# Altium footprint library HT32F52352.PcbLib: 26 footprints (part 1 of 2)
Each footprint in its own frame and in the unit in brackets; x right, y up, seen from the top. Pads: shape width x height; smd on the part's side, far side on the other; paste and mask are expansions set on the pad; w line width, h text height; cw(c..) or ccw(c..) is an arc to the next point about the centre after c.
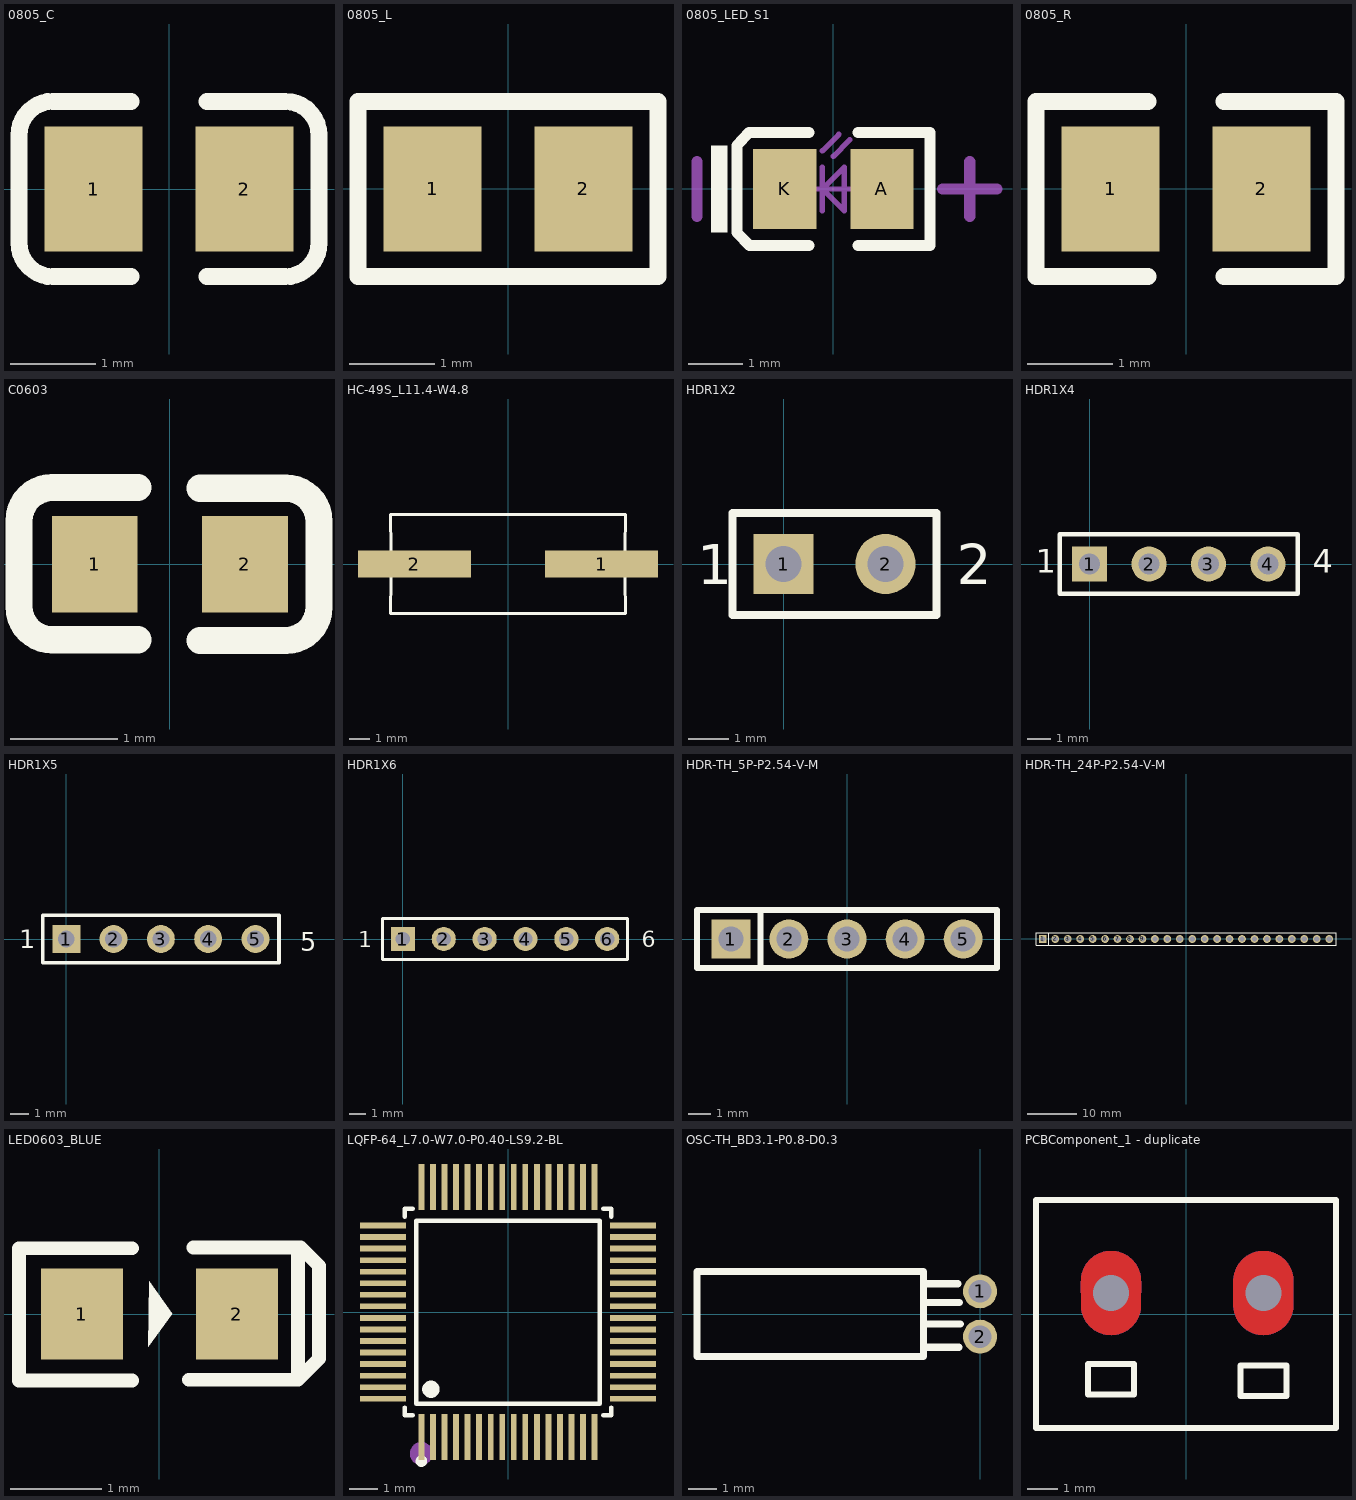
[diagram p0: the footprints below, top view; thin cyan lines are the x and y axes]

## 0805_C [mm]
pads (2):
  rect 1.16x1.47 smd: 1(-0.89,0) 2(0.89,0)
Top Overlay:
  lines w0.2: -0.45,-1.035 -1.37,-1.035 cw(c-1.37,-0.635) -1.77,-0.635 -1.77,0.635 cw(c-1.37,0.635) -1.37,1.035 -0.45,1.035 ; 0.45,-1.035 1.37,-1.035 ccw(c1.37,-0.635) 1.77,-0.635 1.77,0.635 ccw(c1.37,0.635) 1.37,1.035 0.45,1.035
3D body "User Library-0805 SMD Capacitor.STEP": height 0.77, standoff -0.01, extent -0.999,-0.625 1.001,0.625

## 0805_L [mm]
pads (2):
  rect 1.16x1.47 smd: 1(-0.89,0) 2(0.89,0)
Top Overlay:
  lines w0.2: -1.77,-1.035 1.77,-1.035 1.77,1.035 -1.77,1.035 -1.77,-1.035
3D body "L0805.STEP": height 0.6, standoff -0.02, extent -1.022,-0.637 1.028,0.638

## 0805_LED_S1 [mm]
pads (2):
  rect 1.16x1.47 smd: A(0.89,0) K(-0.89,0)
Top Overlay:
  rectangle: -2.245,-0.8 -1.945,0.8
  lines w0.2: -0.45,-1.035 -1.535,-1.035 -1.77,-0.8 -1.77,0.8 -1.55,1.035 -0.45,1.035 ; 0.45,-1.035 1.77,-1.035 1.77,1.035 0.45,1.035
Mechanical 13:
  lines w0.1: -0.4,0 0.4,0 ; -0.2,-0.4 -0.2,0.4 ; -0.2,0.7 0.1,1 ; 0,0.6 0.3,0.9 ; -0.2,0 0.2,0.4 0.2,-0.4 -0.2,0
Mechanical 15:
  lines w0.203: -2.5,-0.5 -2.5,0.5 ; 2,0 3,0 ; 2.5,-0.5 2.5,0.5
3D body "User Library-led_0805.step": height 1.1, standoff 0, extent -1.01,-0.625 1.01,0.625

## 0805_R [mm]
pads (2):
  rect 1.16x1.47 smd: 1(-0.89,0) 2(0.89,0)
Top Overlay:
  lines w0.2: -0.45,-1.035 -1.77,-1.035 -1.77,1.035 -0.45,1.035 ; 0.45,-1.035 1.77,-1.035 1.77,1.035 0.45,1.035
3D body "User Library-R_0805.STEP": height 0.49, standoff -0.01, extent -0.997,-0.625 1.003,0.625

## C0603 [mm]
pads (2):
  rect 0.8x0.9 smd: 1(-0.7,0) 2(0.7,0)
Top Overlay:
  lines w0.254: -0.296,-0.704 -1.096,-0.704 cw(c-1.096,-0.394) -1.406,-0.394 -1.405,0.406 cw(c-1.096,0.406) -1.096,0.715 -0.296,0.715 ; 0.28,-0.71 1.08,-0.71 ccw(c1.08,-0.4) 1.39,-0.4 1.39,0.4 ccw(c1.08,0.4) 1.08,0.71 0.28,0.71

## HC-49S_L11.4-W4.8 [mm]
pads (2):
  rect 5.5x1.3 smd: 1(4.553,0) 2(-4.553,0)
Top Overlay:
  lines w0.152: -5.715,-2.413 -5.7,-0.662 -5.715,-2.413 ; -5.715,-2.413 5.715,-2.413 ; -5.715,-2.413 5.715,-2.413 ; -5.715,2.413 5.715,2.413 ; -5.715,2.413 -5.7,0.662 -5.715,2.413 ; -5.715,2.413 5.715,2.413 ; 5.715,-2.413 5.7,-0.662 5.715,-2.413 ; 5.715,2.413 5.7,0.662 5.715,2.413

## HDR1X2 [mm]
pads (2):
  rect 1.5x1.5 hole 0.9: 1(0,0)
  round 1.5 hole 0.9: 2(2.54,0)
Top Overlay:
  lines w0.2: -1.27,-1.27 3.81,-1.27 3.81,1.27 -1.27,1.27 -1.27,-1.27
  text "1" at -2.159,-0.508 h1
  text "2" at 4.318,-0.508 h1

## HDR1X4 [mm]
pads (4):
  rect 1.5x1.5 hole 0.9: 1(0,0)
  round 1.5 hole 0.9: 2(2.54,0) 3(5.08,0) 4(7.62,0)
Top Overlay:
  lines w0.2: -1.27,-1.27 8.89,-1.27 8.89,1.27 -1.27,1.27 -1.27,-1.27
  text "1" at -2.286,-0.381 h1
  text "4" at 9.525,-0.381 h1

## HDR1X5 [mm]
pads (5):
  rect 1.5x1.5 hole 0.9: 1(0,0)
  round 1.5 hole 0.9: 2(2.54,0) 3(5.08,0) 4(7.62,0) 5(10.16,0)
Top Overlay:
  lines w0.2: -1.27,-1.27 -1.27,1.27 11.43,1.27 11.43,-1.27 -1.27,-1.27
  text "5" at 12.573,-0.635 h1
  text "1" at -2.54,-0.508 h1

## HDR1X6 [mm]
pads (6):
  rect 1.5x1.5 hole 0.9: 1(0,0)
  round 1.5 hole 0.9: 2(2.54,0) 3(5.08,0) 4(7.62,0) 5(10.16,0) 6(12.7,0)
Top Overlay:
  lines w0.2: -1.27,-1.27 -1.27,1.27 13.97,1.27 13.97,-1.27 -1.27,-1.27
  text "6" at 14.859,-0.508 h1
  text "1" at -2.794,-0.508 h1

## HDR-TH_5P-P2.54-V-M [mm]
pads (5):
  rect 1.7x1.7 hole 1.1: 1(-5.08,0)
  round 1.7 hole 1.1: 2(-2.54,0) 3(0,0) 4(2.54,0) 5(5.08,0)
Top Overlay:
  lines w0.254: -3.786,-1.27 -3.786,1.27 ; -6.56,-1.27 -6.56,1.27 6.56,1.27 6.56,-1.27 -6.56,-1.27

## HDR-TH_24P-P2.54-V-M [mm]
pads (24):
  rect 1.6x1.6 hole 1.05: 1(-29.21,0)
  round 1.6 hole 1.05: 2(-26.67,0) 3(-24.13,0) 4(-21.59,0) 5(-19.05,0) 6(-16.51,0) 7(-13.97,0) 8(-11.43,0) 9(-8.89,0) 10(-6.35,0) 11(-3.81,0) 12(-1.27,0) 13(1.27,0) 14(3.81,0) 15(6.35,0) 16(8.89,0) 17(11.43,0) 18(13.97,0) 19(16.51,0) 20(19.05,0) 21(21.59,0) 22(24.13,0) 23(26.67,0) 24(29.21,0)
Top Overlay:
  lines w0.254: -28.032,-1.25 -28.032,1.25 ; -30.6,-1.25 -30.6,1.25 30.6,1.25 30.6,-1.25 -30.6,-1.25

## LED0603_BLUE [mm]
pads (2):
  rect 0.9x1 smd: 1(-0.85,0) 2(0.85,0)
Top Overlay:
  region: -0.11,0.36 -0.12,-0.36 0.14,0
  lines w0.15: -0.3,-0.73 -1.54,-0.73 -1.54,0.72 -0.3,0.72 ; 0.32,-0.72 1.52,-0.72 ; 0.37,0.73 1.52,0.73 ; 1.52,-0.72 1.52,0.73 ; 1.52,-0.72 1.72,-0.52 1.75,-0.49 1.75,0.53 1.55,0.73 1.52,0.73

## LQFP-64_L7.0-W7.0-P0.40-LS9.2-BL [mm]
pads (64):
  rect 0.2x1.6 smd: 1(-3,-4.33) 2(-2.6,-4.33) 3(-2.2,-4.33) 4(-1.8,-4.33) 5(-1.4,-4.33) 6(-1,-4.33) 7(-0.6,-4.33) 8(-0.2,-4.33) 9(0.2,-4.33) 10(0.6,-4.33) 11(1,-4.33) 12(1.4,-4.33) 13(1.8,-4.33) 14(2.2,-4.33) 15(2.6,-4.33) 16(3,-4.33) 33(3,4.33) 34(2.6,4.33) 35(2.2,4.33) 36(1.8,4.33) 37(1.4,4.33) 38(1,4.33) 39(0.6,4.33) 40(0.2,4.33) 41(-0.2,4.33) 42(-0.6,4.33) 43(-1,4.33) 44(-1.4,4.33) 45(-1.8,4.33) 46(-2.2,4.33) 47(-2.6,4.33) 48(-3,4.33)
  rect 1.6x0.2 smd: 17(4.33,-3) 18(4.33,-2.6) 19(4.33,-2.2) 20(4.33,-1.8) 21(4.33,-1.4) 22(4.33,-1) 23(4.33,-0.6) 24(4.33,-0.2) 25(4.33,0.2) 26(4.33,0.6) 27(4.33,1) 28(4.33,1.4) 29(4.33,1.8) 30(4.33,2.2) 31(4.33,2.6) 32(4.33,3) 49(-4.33,3) 50(-4.33,2.6) 51(-4.33,2.2) 52(-4.33,1.8) 53(-4.33,1.4) 54(-4.33,1) 55(-4.33,0.6) 56(-4.33,0.2) 57(-4.33,-0.2) 58(-4.33,-0.6) 59(-4.33,-1) 60(-4.33,-1.4) 61(-4.33,-1.8) 62(-4.33,-2.2) 63(-4.33,-2.6) 64(-4.33,-3)
Top Overlay:
  circle w0.2: c-3,-5.16 r0.1
  circle w0.3: c-2.671,-2.671 r0.15
  lines w0.152: -3.576,-3.303 -3.576,-3.576 -3.303,-3.576 ; -3.576,3.303 -3.576,3.576 -3.303,3.576 ; 3.303,-3.576 3.576,-3.576 3.576,-3.303 ; 3.303,3.576 3.576,3.576 3.576,3.303 ; -3.171,-3.171 -3.171,3.171 3.171,3.171 3.171,-3.171 -3.171,-3.171
Mechanical 15:
  circle w0.4: c-3,-4.9 r0.2

## OSC-TH_BD3.1-P0.8-D0.3 [mm]
pads (2):
  round 1.2 hole 0.8: 1(0,0.8) 2(0,-0.8)
Top Overlay:
  lines w0.254: -2,-1.177 -0.74,-1.177 ; -2,-0.35 -0.698,-0.35 ; -2,0.403 -0.73,0.403 ; -2,1.071 -0.786,1.071 ; -10,-1.5 -2,-1.5 -2,1.5 -10,1.5 -10,-1.5

## PCBComponent_1 - duplicate [mm]
pads (2):
  round 0 hole 1.2: 1(-2.5,0.7) 2(2.58,0.7)
Top Layer:
  region: 250 vertices and 0 holes, not listed, extent -3.5,-0.7 -1.5,2.1
  region: 250 vertices and 0 holes, not listed, extent 1.58,-0.7 3.58,2.1
Bottom Layer:
  region: 250 vertices and 0 holes, not listed, extent -3.5,-0.7 -1.5,2.1
  region: 250 vertices and 0 holes, not listed, extent 1.58,-0.7 3.58,2.1
Top Overlay:
  lines w0.2: -5,-3.8 5,-3.8 5,3.8 -5,3.8 -5,-3.8 ; -3.262,-2.676 -3.262,-1.66 -1.738,-1.66 -1.738,-2.676 -3.262,-2.676 ; 1.818,-2.726 1.818,-1.71 3.342,-1.71 3.342,-2.726 1.818,-2.726
Top Paste:
  drawing of 2 lines, arcs and shapes, not listed
Bottom Paste:
  drawing of 2 lines, arcs and shapes, not listed
Top Solder:
  drawing of 2 lines, arcs and shapes, not listed
Bottom Solder:
  drawing of 2 lines, arcs and shapes, not listed